# Altium integrated library Ceramic Capacitor.IntLib: 6 symbols
Pins are listed as number, name and electrical type; pins without a type are passive.

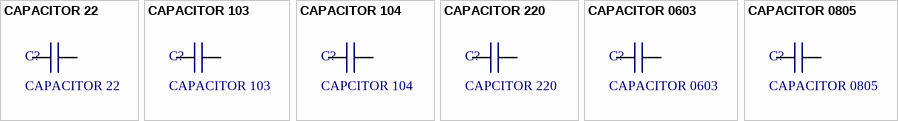
[diagram p0: symbols CAPACITOR 22 to CAPACITOR 0805]

## CAPACITOR 22
designator C?
Ceramic Capacitor 22, 3mm.
footprint CAPACITOR 22
pins: 1, 2

## CAPACITOR 103
designator C?
Ceramic Capacitor 103, 5mm.
footprint CAPACITOR 103
pins: 1, 2

## CAPACITOR 104
designator C?, comment CAPCITOR 104
Ceramic Capacitor 104, 3mm.
footprint CAPACITOR 104
pins: 1, 2

## CAPACITOR 220
designator C?, comment CAPCITOR 220
Ceramic Capacitor 220, 6mm.
footprint CAPACITOR 220
pins: 1, 2

## CAPACITOR 0603
designator C?
Generic Capacitor 0603, 1.6x0.8x0.9mm.
footprint CAPACITOR 0603
pins: 1, 2

## CAPACITOR 0805
designator C?
Generic Capacitor 0805, 2x1.25x1.4mm.
footprint CAPACITOR 0805
pins: 1, 2